# Altium schematic symbol library SMAJ58A.SchLib: 1 symbol
Pins are listed as number, name and electrical type; pins without a type are passive.

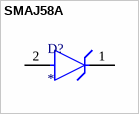
[diagram p0: symbol SMAJ58A]

## SMAJ58A
designator D?
TVS DIODE 58V 93.6V SMA
footprint SMA
pins: 1 C, 2 A